# Altium schematic symbol library MCU_NXP_NTAG.SchLib: 1 symbol
Pins are listed as number, name and electrical type; pins without a type are passive.

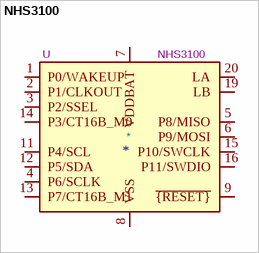
[diagram p0: symbol NHS3100]

## NHS3100
designator *  value NHS3100  Reference: U
ki_keywords: NFC Cortex-M0; ki_description: Temperature logger, VQFN-24; ki_fp_filters: HVQFN*1EP*4x4mm*P0.5mm*; Footprint: Package_DFN_QFN:HVQFN-24-1EP_4x4mm_P0.5mm_EP2.6x2.6mm; Datasheet: https://www.nxp.com/docs/en/data-sheet/NHS3100.pdf
pins: 1 P0/WAKEUP, 2 P1/CLKOUT, 3 P2/SSEL, 4 P6/SCLK, 5 P8/MISO, 6 P9/MOSI, 7 VDDBAT, 8 VSS, 9 ~{{RESET}}, 10 reserved hidden, 11 P4/SCL, 12 P5/SDA, 13 P7/CT16B_M1, 14 P3/CT16B_M0, 15 P10/SWCLK, 16 P11/SWDIO, 17 VSS hidden, 18 VSS hidden, 19 LB, 20 LA, 21 VSS hidden, 22 VSS hidden, 23 VSS hidden, 24 VSS hidden, 25 VSS hidden